# EAGLE library part DSPIC33EP512MC502 (library _MyComponents)
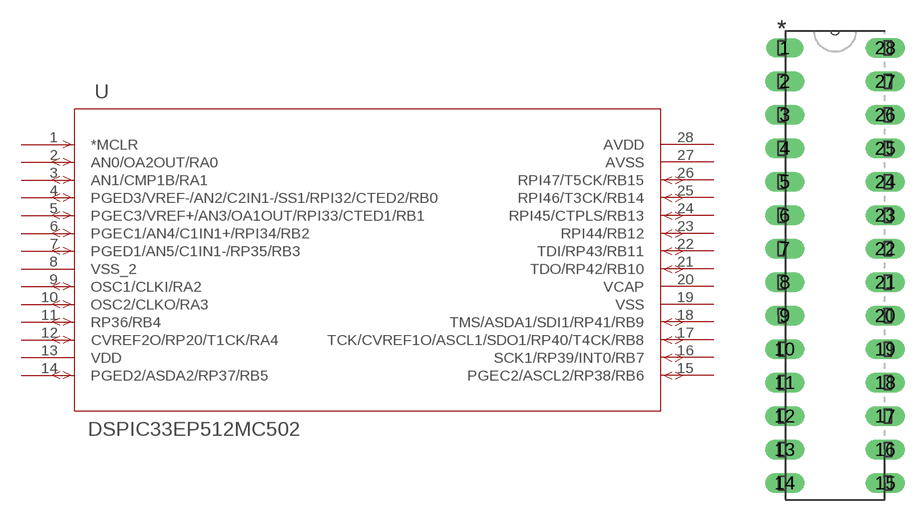
[diagram p13: symbol with the pads of SPDIP28_300MC; footprint SPDIP28_300MC]

Designator prefix -

## DSPIC33EP512MC502  [SPDIP28_300MC]
1  *MCLR  in
2  AN0/OA2OUT/RA0
3  AN1/CMP1B/RA1
4  PGED3/VREF-/AN2/C2IN1-/SS1/RPI32/CTED2/RB0
5  PGEC3/VREF+/AN3/OA1OUT/RPI33/CTED1/RB1
6  PGEC1/AN4/C1IN1+/RPI34/RB2
7  PGED1/AN5/C1IN1-/RP35/RB3
8  VSS_2  pwr
9  OSC1/CLKI/RA2
10  OSC2/CLKO/RA3
11  RP36/RB4
12  CVREF2O/RP20/T1CK/RA4
13  VDD  pwr
14  PGED2/ASDA2/RP37/RB5
15  PGEC2/ASCL2/RP38/RB6
16  SCK1/RP39/INT0/RB7
17  TCK/CVREF1O/ASCL1/SDO1/RP40/T4CK/RB8
18  TMS/ASDA1/SDI1/RP41/RB9
19  VSS  pwr
20  VCAP  pwr
21  TDO/RP42/RB10
22  TDI/RP43/RB11
23  RPI44/RB12
24  RPI45/CTPLS/RB13
25  RPI46/T3CK/RB14
26  RPI47/T5CK/RB15
27  AVSS  pwr
28  AVDD  pwr

## Footprint SPDIP28_300MC (pad centres in mm)
drill 0.8 pad 1.422 long: 1 -7.62,33.02
drill 0.991 long: 2 -7.62,30.48; 3 -7.62,27.94; 4 -7.62,25.4; 5 -7.62,22.86; 6 -7.62,20.32; 7 -7.62,17.78; 8 -7.62,15.24; 9 -7.62,12.7; 10 -7.62,10.16; 11 -7.62,7.62; 12 -7.62,5.08; 13 -7.62,2.54; 14 -7.62,0; 15 0,0; 16 0,2.54; 17 0,5.08; 18 0,7.62; 19 0,10.16; 20 0,12.7; 21 0,15.24; 22 0,17.78; 23 0,20.32; 24 0,22.86; 25 0,25.4; 26 0,27.94; 27 0,30.48; 28 0,33.02